# EAGLE library part 16PIN-VERT (library Vertical_Connectors)
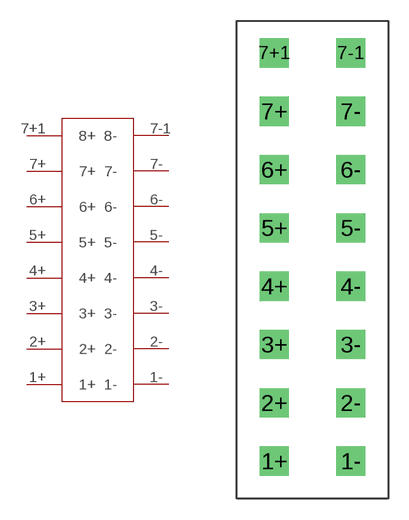
[diagram p1: symbol with the pads of 16PIN_VERT; footprint 16PIN_VERT]

Designator prefix -

## 16PIN-VERT  [16PIN_VERT]
1+  1+
1-  1-
2+  2+
2-  2-
3+  3+
3-  3-
4+  4+
4-  4-
5+  5+
5-  5-
6+  6+
6-  6-
7+  7+
7+1  8+
7-  7-
7-1  8-

## Footprint 16PIN_VERT (pad centres in mm)
drill 1.4 square: 1+ 0,0; 1- 5.5,0; 2+ 0,4.2; 2- 5.5,4.2; 3+ 0,8.4; 3- 5.5,8.4; 4+ 0,12.6; 4- 5.5,12.6; 5+ 0,16.8; 5- 5.5,16.8; 6+ 0,21; 6- 5.5,21; 7+ 0,25.2; 7+1 0,29.4; 7- 5.5,25.2; 7-1 5.5,29.4